# Altium footprint library MergenElektronik_Microcontrollers_Espressifs.PcbLib: 2 footprints
Each footprint in its own frame and in the unit in brackets; x right, y up, seen from the top. Pads: shape width x height; smd on the part's side, far side on the other; paste and mask are expansions set on the pad; w line width, h text height; cw(c..) or ccw(c..) is an arc to the next point about the centre after c.
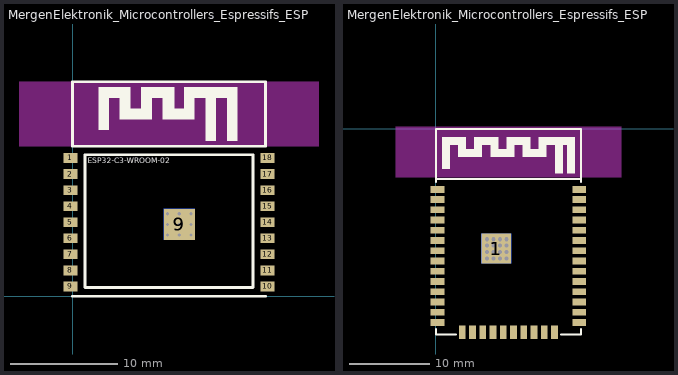
[diagram p0: the footprints below, top view; thin cyan lines are the x and y axes]

## MergenElektronik_Microcontrollers_Espressifs_ESP32-C3-WROOM-02 [mm] "ESP32-C3-WROOM-02"
pads (20):
  rect 1.3x0.9 smd: 1(-0.2,12.9) 2(-0.2,11.4) 3(-0.2,9.9) 4(-0.2,8.4) 5(-0.2,6.9) 6(-0.2,5.4) 7(-0.2,3.9) 8(-0.2,2.4) 9(-0.2,0.9) 10(18.2,0.9) 11(18.2,2.4) 12(18.2,3.9) 13(18.2,5.4) 14(18.2,6.9) 15(18.2,8.4) 16(18.2,9.9) 17(18.2,11.4) 18(18.2,12.9)
  rect 2.9x2.9 smd: 9(9.96,6.7)
  rect 2.9x2.9 smd far side: 9(9.96,6.7)
via 11.06,5.7 diameter 0.3 hole 0.3
via 9.96,5.7 diameter 0.3 hole 0.3
via 8.86,5.7 diameter 0.3 hole 0.3
via 8.86,6.7 diameter 0.3 hole 0.3
via 9.96,6.7 diameter 0.3 hole 0.3
via 11.06,7.7 diameter 0.3 hole 0.3
via 11.06,6.7 diameter 0.3 hole 0.3
via 8.86,7.7 diameter 0.3 hole 0.3
via 9.96,7.7 diameter 0.3 hole 0.3
Top Overlay:
  rectangle: 14.4,14.5 15.4,19.5
  rectangle: 12.4,18.5 14.4,19.5
  rectangle: 12.4,14.5 13.4,18.5
  rectangle: 10.4,18.5 12.4,19.5
  rectangle: 10.4,16.5 11.4,18.5
  rectangle: 8.4,16.5 10.4,17.5
  rectangle: 8.4,17.5 9.5,19.5
  region: 8.4,18.5 8.4,19.5 6.4,19.5 6.4,18.5
  region: 7.4,16.5 7.4,18.5 6.4,18.5 6.4,16.5
  region: 6.4,16.5 6.4,17.5 4.4,17.5 4.4,16.5
  region: 5.4,17.5 5.4,19.5 4.4,19.5 4.4,17.5
  region: 4.4,18.5 4.4,19.5 2.4,19.5 2.4,18.5
  region: 3.4,15.5 3.4,18.5 2.4,18.5 2.4,15.5
  lines w0.254: 0,0 18,0 ; 0,14 18,14 18,20 0,20 0,14 ; 1.15,0.815 1.15,13.185 16.85,13.185 16.85,0.815 1.15,0.815
  text "ESP32-C3-WROOM-02" at 1.4,12.4 h0.5
Keep-Out Layer:
  region: -5,14 -5,20 9,20 23,20 23,14
3D body: height 3.25, standoff -0.01, extent 0,0.097 18.02,20.097

## MergenElektronik_Microcontrollers_Espressifs_ESP32-WROOM-32 [mm] "ESP32-WROOM-32"
pads (56):
  rect 1.7x0.85 smd: 1(0.2,-7.49) 1(17.8,-7.49) 2(0.2,-8.76) 3(0.2,-10.03) 4(0.2,-11.3) 5(0.2,-12.57) 6(0.2,-13.84) 7(0.2,-15.11) 8(0.2,-16.38) 9(0.2,-17.65) 10(0.2,-18.92) 11(0.2,-20.19) 12(0.2,-21.46) 13(0.2,-22.73) 14(0.2,-24) 25(17.8,-24) 26(17.8,-22.73) 27(17.8,-21.46) 28(17.8,-20.19) 29(17.8,-18.92) 30(17.8,-17.65) 31(17.8,-16.38) 32(17.8,-15.11) 33(17.8,-13.84) 34(17.8,-12.57) 35(17.8,-11.3) 36(17.8,-10.03) 37(17.8,-8.76)
  rect 0.85x1.7 smd: 1(3.28,-25.2) 16(4.55,-25.2) 17(5.82,-25.2) 18(7.09,-25.2) 19(8.36,-25.2) 20(9.63,-25.2) 21(10.9,-25.2) 22(12.17,-25.2) 23(13.44,-25.2) 24(14.71,-25.2)
  round 0.5 hole 0.5: 1(6.34,-16.08) 1(6.34,-15.28) 1(6.34,-14.48) 1(6.34,-13.68) 1(7.14,-16.08) 1(7.14,-14.48) 1(7.14,-13.68) 1(7.94,-16.08) 1(7.94,-15.28) 1(7.94,-14.48) 1(7.94,-13.68) 1(8.74,-16.08) 1(8.74,-15.28) 1(8.74,-14.48) 1(8.74,-13.68)
  round 0.5 hole 0.5 paste+0 mask+0: 1(7.14,-15.28)
  rect 3.7x3.7 smd: 1(7.5,-14.83)
  rect 3.7x3.7 smd far side paste+0: 1(7.5,-14.83)
Top Overlay:
  region: 1.75,-5 1.75,-1 0.75,-1 0.75,-5
  region: 3.75,-2 3.75,-1 1.75,-1 1.75,-2
  region: 3.75,-3.5 3.75,-2 2.75,-2 2.75,-3.5
  region: 5.75,-3.5 5.75,-2.5 3.75,-2.5 3.75,-3.5
  region: 5.75,-2.5 5.75,-1 4.75,-1 4.75,-2.5
  region: 7.75,-2 7.75,-1 5.75,-1 5.75,-2
  region: 7.75,-3.5 7.75,-2 6.75,-2 6.75,-3.5
  region: 9.75,-3.5 9.75,-2.5 7.75,-2.5 7.75,-3.5
  region: 9.75,-2.5 9.75,-1 8.75,-1 8.75,-2.5
  region: 11.75,-2 11.75,-1 9.75,-1 9.75,-2
  region: 11.75,-3.5 11.75,-2 10.75,-2 10.75,-3.5
  region: 13.75,-3.5 13.75,-2.5 11.75,-2.5 11.75,-3.5
  region: 13.75,-2.5 13.75,-1 12.75,-1 12.75,-2.5
  region: 16.75,-2 16.75,-1 13.75,-1 13.75,-2
  region: 15.75,-5.5 15.75,-2 14.75,-2 14.75,-5.5
  region: 17.25,-5.5 17.25,-2 16.25,-2 16.25,-5.5
  region: 17.25,-2 17.25,-1 16.75,-1 16.75,-2
  lines w0.254: 0,-24.8 0,-25.5 2.5,-25.5 ; 0,-6.6 0,0 18,0 18,-6.6 ; 0,-6.2 18,-6.2 ; 15.5,-25.5 18,-25.5 18,-24.8
Keep-Out Layer:
  region: 23,-6 23,0.3 -5,0.3 -5,-6
3D body: height 2.6, standoff -0.01, extent 0,-25.5 17.9,-0.045